# EAGLE library part EA3036_EA3036 (library Blueberry Pi)
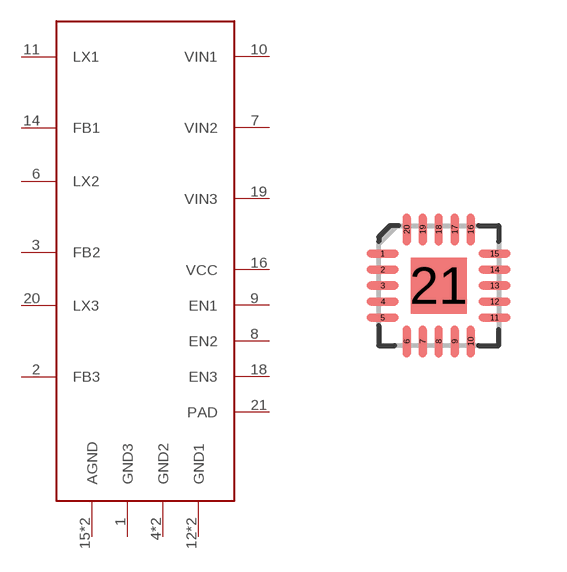
[diagram p1: symbol with the pads of EA3036_QFN20; footprint EA3036_QFN20]

Designator prefix -

## EA3036_EA3036  [EA3036_QFN20]
1  GND3
2  FB3
3  FB2
4  GND2
5  GND2
6  LX2
7  VIN2
8  EN2
9  EN1
10  VIN1
11  LX1
12  GND1
13  GND1
14  FB1
15  AGND
16  VCC
17  AGND
18  EN3
19  VIN3
20  LX3
21  PAD

## Footprint EA3036_QFN20 (pad centres in mm)
smd 0.8 x 0.2: 1 -1.4,0.8; 2 -1.4,0.4; 3 -1.4,0; 4 -1.4,-0.4; 5 -1.4,-0.8; 11 1.4,-0.8; 12 1.4,-0.4; 13 1.4,0; 14 1.4,0.4; 15 1.4,0.8
smd 0.2 x 0.8: 6 -0.8,-1.4; 7 -0.4,-1.4; 8 0,-1.4; 9 0.4,-1.4; 10 0.8,-1.4; 16 0.8,1.4; 17 0.4,1.4; 18 0,1.4; 19 -0.4,1.4; 20 -0.8,1.4
smd 1.4 x 1.4: 21 0,0